# Altium footprint library 九届驱动电源1.PcbLib: 17 footprints (part 1 of 2)
Each footprint in its own frame and in the unit in brackets; x right, y up, seen from the top. Pads: shape width x height; smd on the part's side, far side on the other; paste and mask are expansions set on the pad; w line width, h text height; cw(c..) or ccw(c..) is an arc to the next point about the centre after c.
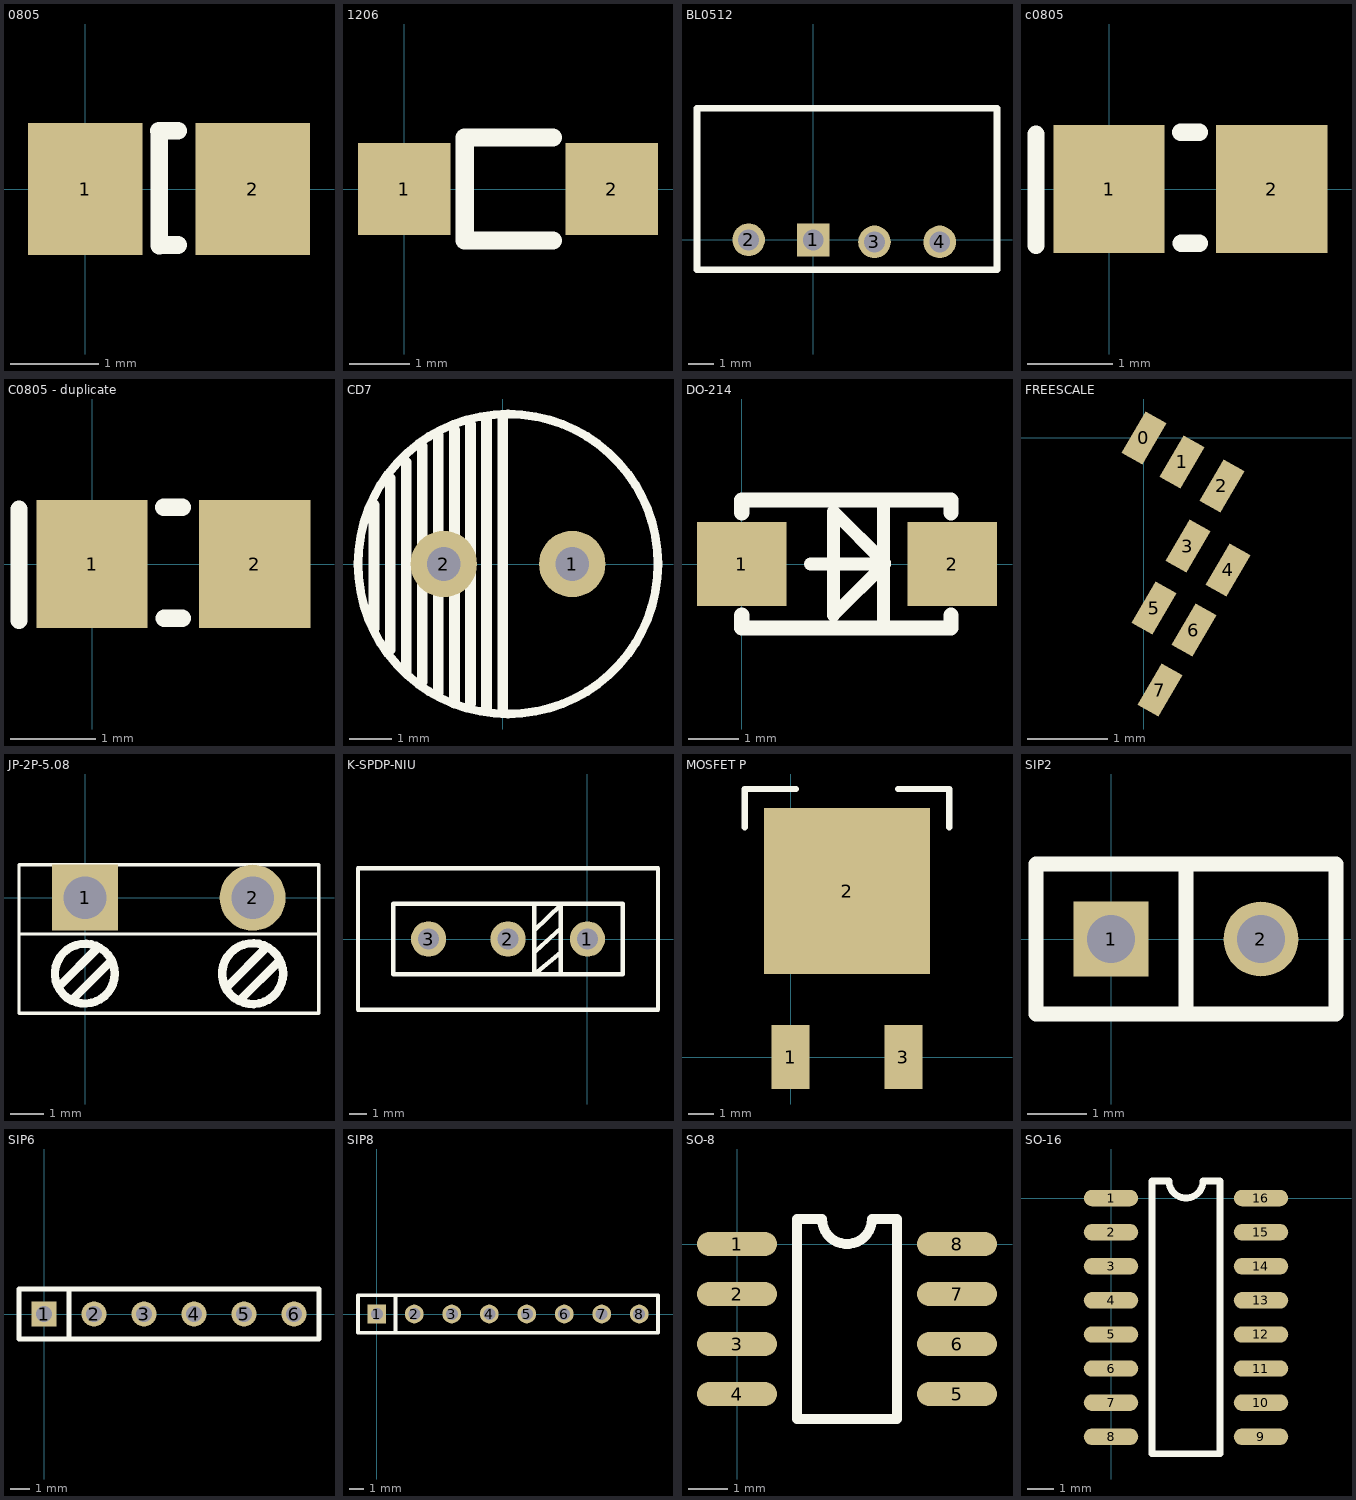
[diagram p0: the footprints below, top view; thin cyan lines are the x and y axes]

## 0805 [mm]
pads (2):
  rect 1.3x1.5 smd: 1(0,0) 2(1.9,0)
Top Overlay:
  lines w0.2: 0.838,-0.64 0.838,0.66
  lines w0.203: 0.838,0.66 1.052,0.66 ; 0.843,-0.635 1.052,-0.635

## 1206 [mil]
pads (2):
  rect 60x60 smd: 1(0,0) 2(135,0)
Top Overlay:
  lines w12: 96.46,-33.46 39.37,-33.46 39.37,33.46 96.46,33.46

## BL0512 [mil]
pads (4):
  rect 50x50 hole 32: 1(0,0)
  round 50 hole 32: 2(-99.1,0.2) 3(93.9,-3) 4(193.9,-3)
Top Overlay:
  lines w10: -178.3,-45.7 281.8,-45.7 281.8,202 -178.3,202 -178.3,-45.7

## c0805 [mm]
pads (2):
  rect 1.3x1.5 smd: 1(0,0) 2(1.9,0)
Top Overlay:
  lines w0.2: -0.853,-0.66 -0.853,0.64
  lines w0.203: 0.838,0.66 1.052,0.66 ; 0.843,-0.635 1.052,-0.635

## C0805 - duplicate [mm]
pads (2):
  rect 1.3x1.5 smd: 1(0,0) 2(1.9,0)
Top Overlay:
  lines w0.2: -0.853,-0.66 -0.853,0.64
  lines w0.203: 0.838,0.66 1.052,0.66 ; 0.843,-0.635 1.052,-0.635

## CD7 [mil]
pads (2):
  round 62 hole 31.5: 1(65,0) 2(-55,0)
Top Overlay:
  circle w8: c5,0 r140
  lines w10: -120,-60 -120,55 ; -105,-80 -105,80 ; -90,-100 -90,95 ; -75,-110 -75,110 ; -60,-120 -60,120 ; -45,-130 -45,125 ; -30,-130 -30,130 ; -15,-135 -15,135 ; 0,-135 0,135

## DO-214 [mil]
pads (2):
  rect 70x66 smd: 1(0,0) 2(164.62,0)
Top Overlay:
  lines w10: 53.81,0 111.81,0 ; 110.81,-50 110.81,50 ; 111.81,0 111.81,1 71.81,41 71.81,-40 111.81,0
  lines w12: 0,-40 0,-50 163.62,-50 163.62,-40 ; 0,40 0,50 163.62,50 163.62,40

## FREESCALE [mm]
pads (8):
  rect 0.6x0.3 smd rot 60: 0(0,0) 1(0.475,-0.3) 2(0.975,-0.6) 3(0.55,-1.35) 4(1.05,-1.65) 5(0.125,-2.125) 6(0.625,-2.4) 7(0.2,-3.15)

## JP-2P-5.08 [mm]
pads (2):
  rect 2x2 hole 1.3: 1(0,0)
  round 2 hole 1.3: 2(5.08,0)
Top Overlay:
  circle w0.254: c5.078,-2.3 r0.922
  circle w0.254: c-0.006,-2.3 r0.906
  lines w0.1: -2,-1.1 7.08,-1.1 ; 7.08,1 7.08,-3.5 -2,-3.5 -2,1 7.088,1
  lines w0.254: -0.8,-2.7 0.4,-1.5 ; -0.4,-3.1 0.8,-1.9 ; 4.3,-2.7 5.5,-1.5 ; 4.7,-3.1 5.9,-1.9

## K-SPDP-NIU [mm]
pads (3):
  round 2 hole 1.2: 1(0,0) 2(-4.5,0) 3(-9,0)
Top Overlay:
  lines w0.254: -3,0.5 -1.5,1.95 ; -3,1.975 -3,-2 -1.5,-0.75 ; -2.975,-0.725 -1.5,0.625 ; -1.5,-2 -1.5,1.975 ; -13,-4 -13,4 4,4 4,-4 -13,-4 ; -11,-2 2,-2 2,2 -11,2 -11,-2

## MOSFET P [mil]
pads (3):
  rect 59.06x100 smd: 1(0,0) 3(177,0)
  rect 260x260 smd: 2(88.5,260)
Top Overlay:
  lines w10: -71.5,360 -71.5,420 8.5,420 ; 168.5,420 248.5,420 248.5,360

## SIP2 [mil]
pads (2):
  rect 50x50 hole 32: 1(0,0)
  round 50 hole 32: 2(100,0)
Top Overlay:
  lines w10: 50,-50 50,50 ; -50,-50 -50,50 150,50 150,-50 -50,-50

## SIP6 [mil]
pads (6):
  rect 50x50 hole 32: 1(0,0)
  round 50 hole 32: 2(100,0) 3(200,0) 4(300,0) 5(400,0) 6(500,0)
Top Overlay:
  lines w10: 50,-50 50,50 ; -50,-50 -50,50 550,50 550,-50 -50,-50

## SIP8 [mil]
pads (8):
  rect 50x50 hole 32: 1(0,0)
  round 50 hole 32: 2(100,0) 3(200,0) 4(300,0) 5(400,0) 6(500,0) 7(600,0) 8(700,0)
Top Overlay:
  lines w10: 50,-50 50,50 ; -50,-50 -50,50 750,50 750,-50 -50,-50

## SO-8 [mil]
pads (8):
  oval 80x24 smd: 1(0,0) 2(0,-50) 3(0,-100) 4(0,-150) 5(220,-150) 6(220,-100) 7(220,-50) 8(220,0)
Top Overlay:
  lines w10: 60,-175 60,25 85,25 ccw(c110,25) 135,25 160,25 160,-175 60,-175

## SO-16 [mil]
pads (16):
  oval 80x24 smd: 1(0,0) 2(0,-50) 3(0,-100) 4(0,-150) 5(0,-200) 6(0,-250) 7(0,-300) 8(0,-350) 9(220,-350) 10(220,-300) 11(220,-250) 12(220,-200) 13(220,-150) 14(220,-100) 15(220,-50) 16(220,0)
Top Overlay:
  lines w10: 60,-375 60,25 85,25 ccw(c110,25) 135,25 160,25 160,-375 60,-375